# Altium footprint library PCB1.PcbLib: 21 footprints (part 2 of 2)
Each footprint in its own frame and in the unit in brackets; x right, y up, seen from the top. Pads: shape width x height; smd on the part's side, far side on the other; paste and mask are expansions set on the pad; w line width, h text height; cw(c..) or ccw(c..) is an arc to the next point about the centre after c.
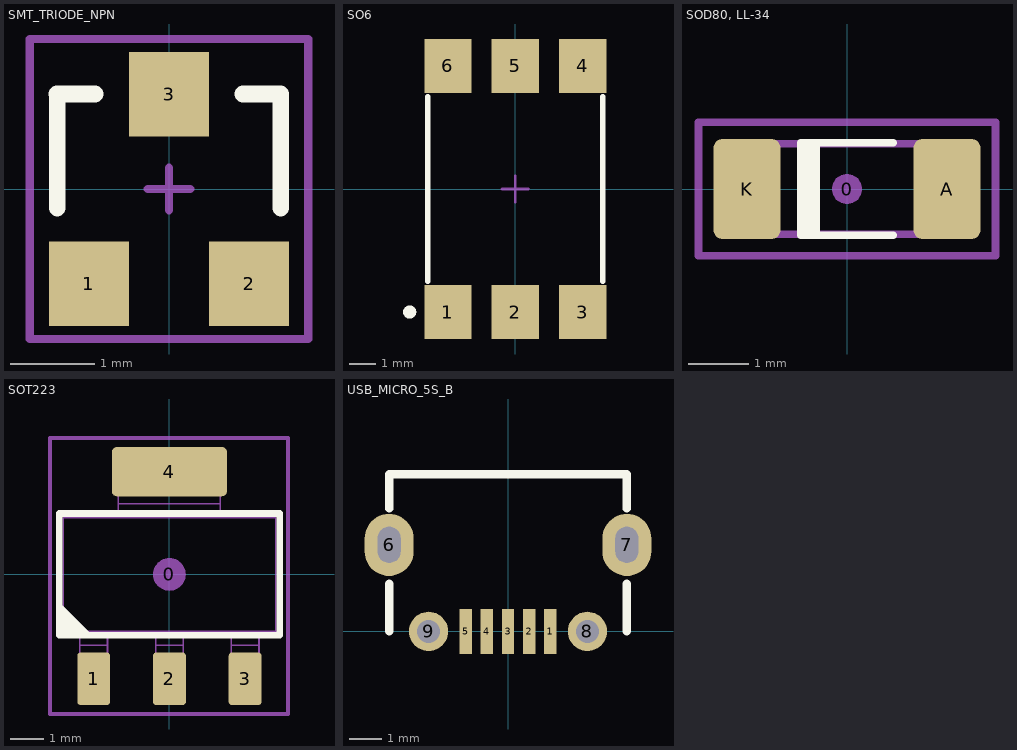
[diagram p1: the footprints below, top view; thin cyan lines are the x and y axes]

## SMT_TRIODE_NPN [mm] "Surface mount NPN transistor, package SOT-23"
height 1.1
pads (3):
  rect 0.95x1 smd: 1(-0.95,-1.125) 2(0.95,-1.125) 3(0,1.125)
Top Overlay:
  lines w0.2: -1.328,1.125 -0.875,1.125 ; -1.325,-0.225 -1.325,1.125 ; 0.875,1.125 1.325,1.125 1.325,-0.225
Mechanical 15:
  lines w0.1: -0.254,0 0.254,0 ; 0,-0.254 0,0.254 ; -1.651,-1.778 1.651,-1.778 1.651,1.778 -1.651,1.778 -1.651,-1.778
3D body "User Library-SOT23-3.step": height 1.3, standoff 0, extent -1.448,-1.397 1.452,1.403

## SO6 [mil]
height 200
pads (6):
  rect 70x80 smd: 1(-100,-182.48) 2(0,-182.48) 3(100,-182.48) 5(0,182.48) 6(-100,182.48)
  rect 70x80 smd mask+0: 4(100,182.48)
Top Overlay:
  circle w9.84: c-156.69,-182.48 r4.92
  lines w7.87: -129.92,-136.81 -129.92,136.81 ; 129.92,-136.81 129.92,136.81
Mechanical 15:
  lines w3.94: -19.69,0 19.68,0 ; 0,-19.68 0,19.68
3D body "PC900.stp": height 140.63, standoff 0.12, extent -138.06,-212.03 138.5,211.43

## SOD80, LL-34 [mm] "Diode, MiniMELF"
height 1.6
pads (3):
  round 0.5 on Mech15: 0(0,0)
  rrect25% 1.1x1.65 smd: A(1.65,0) K(-1.65,0)
Top Overlay:
  rectangle: -0.762,-0.762 -0.508,0.762
  lines w0.127: -0.508,-0.762 -0.508,0.762 ; 0.762,-0.762 -0.762,-0.762 -0.762,0.762 0.762,0.762
Mechanical 13:
  lines w0.127: -1.8,-0.747 1.8,-0.747 1.8,0.747 -1.8,0.747 -1.8,-0.747
Mechanical 15:
  lines w0.127: -2.45,-1.1 2.45,-1.1 2.45,1.1 -2.45,1.1 -2.45,-1.1
3D body "SOD80.stp": height 1.47, standoff -0.01, extent -1.8,-0.747 1.8,0.747

## SOT223 [mm] "SOT223 /SC-73"
height 1.524
pads (5):
  round 1 on Mech15: 0(0,0)
  rrect20% 1x1.6 smd: 1(-2.3,-3.173) 2(0,-3.173) 3(2.3,-3.173)
  rrect20% 3.5x1.5 smd: 4(0,3.124)
Top Overlay:
  region: -3.35,-1.85 -3.35,-0.85 -2.35,-1.85
  lines w0.2: -3.35,-1.85 3.35,-1.85 3.35,1.85 -3.35,1.85 -3.35,-1.85
Mechanical 13:
  lines w0.05: -2.72,-3.186 -1.88,-3.186 ; -2.72,-3.062 -1.88,-3.062 ; -2.72,-2.506 -1.88,-2.506 ; -2.72,-2.152 -1.88,-2.152 ; -2.72,-1.85 -3.35,-1.85 ; -1.88,-1.85 -0.42,-1.85 ; -1.55,1.85 -3.35,1.85 ; -1.55,2.152 1.55,2.152 ; -1.55,2.506 1.55,2.506 ; -1.55,3.062 1.55,3.062 ; -1.55,3.186 1.55,3.186 ; -0.42,-3.186 0.42,-3.186 ; -0.42,-3.062 0.42,-3.062 ; -0.42,-2.506 0.42,-2.506 ; -0.42,-2.152 0.42,-2.152 ; 0.42,-1.85 1.88,-1.85 ; 1.55,1.85 3.35,1.85 ; 1.88,-3.186 2.72,-3.186 ; 1.88,-3.062 2.72,-3.062 ; 1.88,-2.506 2.72,-2.506 ; 1.88,-2.152 2.72,-2.152 ; 2.72,-1.85 3.35,-1.85 ; -3.35,-1.85 -3.35,1.85 ; -3.35,-1.85 -3.231,-1.731 ; -3.35,1.85 -3.231,1.731 ; -3.231,-1.731 3.231,-1.731 ; -3.231,-1.731 -3.231,1.731 ; -3.231,1.731 3.231,1.731 ; 3.231,-1.731 3.231,1.731 ; 3.231,-1.731 3.35,-1.85 ; 3.231,1.731 3.35,1.85 ; 3.35,-1.85 3.35,1.85 ; -2.72,-3.65 -2.72,-1.829 -1.88,-1.829 -1.88,-3.65 -2.72,-3.65 ; -1.55,1.829 1.55,1.829 1.55,3.65 -1.55,3.65 -1.55,1.829 ; -0.42,-3.65 -0.42,-1.829 0.42,-1.829 0.42,-3.65 -0.42,-3.65 ; 1.88,-3.65 1.88,-1.829 2.72,-1.829 2.72,-3.65 1.88,-3.65
Mechanical 15:
  lines w0.127: -3.632,-4.242 3.607,-4.242 3.607,4.14 -3.632,4.14 -3.632,-4.242
3D body "User Library-SOT223-3.STEP": height 1.7, standoff 0, extent -3.25,-3.5 3.25,3.5

## USB_MICRO_5S_B [mil] "USB Micro SMT 5S B"
height 118.11
pads (9):
  rect 15x54 smd: 1(51,0) 2(25.5,0) 3(0,0) 4(-25.5,0) 5(-51,0)
  oval 59.06x74.8 hole 27.56 slot 43.31 at 90 deg: 6(-143,104) 7(143,104)
  round 47.24 hole 27.5: 8(95.5,0) 9(-95.5,0)
Top Overlay:
  lines w10: -142.72,0 -142.72,57.28 ; -142.72,147.72 -142.72,188.98 142.72,188.98 142.72,147.72 ; 142.72,0 142.72,57.28
3D body "User Library-Micro USB-B_Molex_105017-0001.step": height 105.31, standoff -24.61, extent -161.42,-9.33 161.41,204.44